# Altium footprint library DEGSON_DG25.PcbLib: 1 footprints
Each footprint in its own frame and in the unit in brackets; x right, y up, seen from the top. Pads: shape width x height; smd on the part's side, far side on the other; paste and mask are expansions set on the pad; w line width, h text height; cw(c..) or ccw(c..) is an arc to the next point about the centre after c.
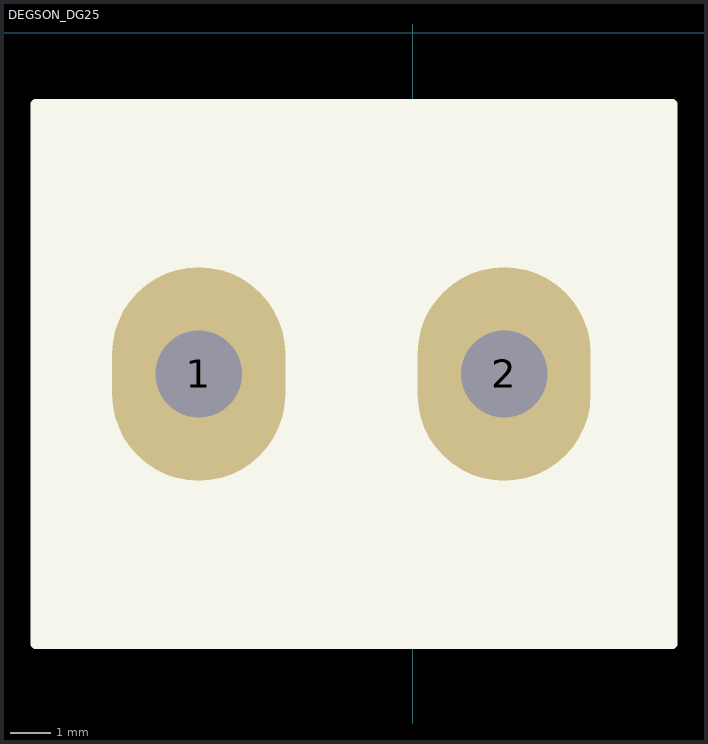
[diagram p0: the footprint, top view; thin cyan lines are the x and y axes]

## DEGSON_DG25 [mil]
pads (2):
  oval 170x210 hole 85: 1(-210,-335) 2(90,-335)
Top Overlay:
  rectangle: -370,-600 255,-70
  lines w10: -370,-600 255,-600 255,-70 -370,-70 -370,-600
Bottom Overlay:
  lines w10: -370,-600 255,-600 255,-70 -370,-70 -370,-600
3D body "DEGSON DG25 300V 15A.STEP": height 588.75, standoff -184.87, extent -370.98,-599.53 255,-70